# Altium schematic symbol library SMD Passive Components.SchLib: 21 symbols
Pins are listed as number, name and electrical type; pins without a type are passive.

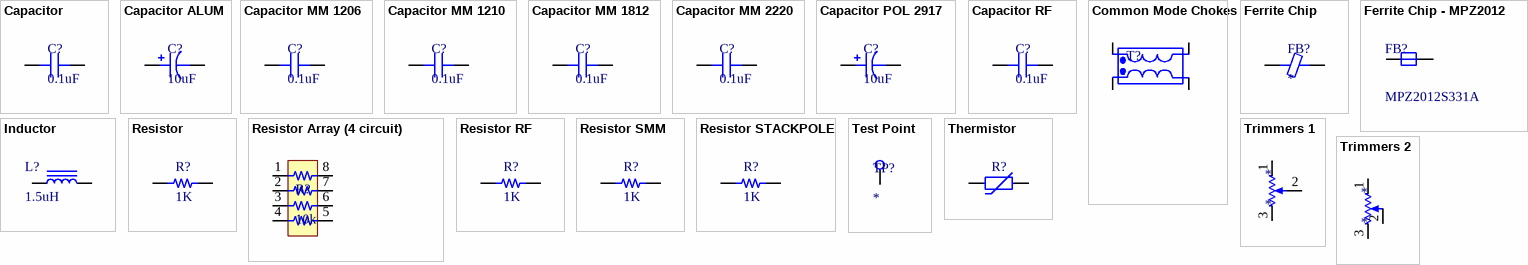
[diagram p0: symbols Capacitor to Trimmers 2]

## Capacitor
designator C?, comment 0.1uF
SMT Capacitor; Value: 0.1uF
footprint CAP 0201/0603 (Chip Capacitor, 2-Leads, Body 0.60x0.30mm, IPC Medium Density)
footprint CAP 0402/1005 (Chip Capacitor, 2-Leads, Body 1.02x0.51mm, IPC Medium Density)
footprint CAP 0603/1608 (Chip Capacitor, 2-Leads, Body 1.60x0.80mm, IPC Medium Density)
footprint CAP 0805/2012 (Chip Capacitor, 2-Leads, Body 2.00x1.20mm, IPC Medium Density)
pins: 1, 2

## Capacitor ALUM
designator C?, comment 10uF
SMT Polarised Capacitor; Value: 10uF
footprint CAP ALUM 6.6MM (Aluminum Electrolytic Capacitor, Body 6.60x6.60x7.70mm, IPC Low Density)
footprint CAP ALUM 8.3MM (Aluminum Electrolytic Capacitor, Body 8.30x8.30x10.50mm, IPC Low Density)
footprint CAP ALUM 10.3MM (Aluminum Electrolytic Capacitor, Body 10.30x10.30x10.50mm, IPC Low Density)
pins: 1, 2

## Capacitor MM 1206
designator C?, comment 0.1uF
SMT Capacitor; Value: 0.1uF
footprint CAP 1206/3216 - 0.8MM (Chip Capacitor, 2-Leads, Body 3.25x1.60mm, IPC Medium Density)
footprint CAP 1206/3216 - 1.0MM (Chip Capacitor, 2-Leads, Body 3.25x1.60mm, IPC Medium Density)
footprint CAP 1206/3216 - 1.2MM (Chip Capacitor, 2-Leads, Body 3.25x1.60mm, IPC Medium Density)
footprint CAP 1206/3216 - 1.8MM (Chip Capacitor, 2-Leads, Body 3.25x1.60mm, IPC Medium Density)
pins: 1, 2

## Capacitor MM 1210
designator C?, comment 0.1uF
SMT Capacitor; Value: 0.1uF
footprint CAP 1210/3225 - 1MM (Chip Capacitor, 2-Leads, Body 3.20x2.50mm, IPC Medium Density)
footprint CAP 1210/3225 - 1.2MM (Chip Capacitor, 2-Leads, Body 3.20x2.50mm, IPC Medium Density)
footprint CAP 1210/3225 - 1.4MM (Chip Capacitor, 2-Leads, Body 3.20x2.50mm, IPC Medium Density)
footprint CAP 1210/3225 - 1.6MM (Chip Capacitor, 2-Leads, Body 3.20x2.50mm, IPC Medium Density)
footprint CAP 1210/3225 - 1.8MM (Chip Capacitor, 2-Leads, Body 3.20x2.50mm, IPC Medium Density)
footprint CAP 1210/3225 - 2.0MM (Chip Capacitor, 2-Leads, Body 3.20x2.50mm, IPC Medium Density)
footprint CAP 1210/3225 - 2.2MM (Chip Capacitor, 2-Leads, Body 3.20x2.50mm, IPC Medium Density)
footprint CAP 1210/3225 - 2.5MM (Chip Capacitor, 2-Leads, Body 3.20x2.50mm, IPC Medium Density)
footprint CAP 1210/3225 - 2.8MM (Chip Capacitor, 2-Leads, Body 3.20x2.50mm, IPC Medium Density)
pins: 1, 2

## Capacitor MM 1812
designator C?, comment 0.1uF
SMT Capacitor; Value: 0.1uF
footprint CAP 1812/4532 1.1MM (Chip Capacitor, 2-Leads, Body 4.50x3.20mm, IPC Medium Density)
footprint CAP 1812/4532 1.35MM (Chip Capacitor, 2-Leads, Body 4.50x3.20mm, IPC Medium Density)
footprint CAP 1812/4532 1.5MM (Chip Capacitor, 2-Leads, Body 4.50x3.20mm, IPC Medium Density)
footprint CAP 1812/4532 1.75MM (Chip Capacitor, 2-Leads, Body 4.50x3.20mm, IPC Medium Density)
footprint CAP 1812/4532 2.00MM (Chip Capacitor, 2-Leads, Body 4.50x3.20mm, IPC Medium Density)
footprint CAP 1812/4532 2.20MM (Chip Capacitor, 2-Leads, Body 4.50x3.20mm, IPC Medium Density)
footprint CAP 1812/4532 2.55MM (Chip Capacitor, 2-Leads, Body 4.50x3.20mm, IPC Medium Density)
footprint CAP 1812/4532 2.8MM (Chip Capacitor, 2-Leads, Body 4.50x3.20mm, IPC Medium Density)
footprint CAP 1812/4532 3.5MM (Chip Capacitor, 2-Leads, Body 4.50x3.20mm, IPC Medium Density)
pins: 1, 2

## Capacitor MM 2220
designator C?, comment 0.1uF
SMT Capacitor; Value: 0.1uF
footprint CAP 2220/5650 1.5MM (Chip Capacitor, 2-Leads, Body 5.70x5.00mm, IPC Medium Density)
footprint CAP 2220/5650 2.0MM (Chip Capacitor, 2-Leads, Body 5.70x5.00mm, IPC Medium Density)
footprint CAP 2220/5650 2.5MM (Chip Capacitor, 2-Leads, Body 5.70x5.00mm, IPC Medium Density)
footprint CAP 2220/5650 3.0MM (Chip Capacitor, 2-Leads, Body 5.70x5.00mm, IPC Medium Density)
footprint CAP 2220/5650 3.3MM (Chip Capacitor, 2-Leads, Body 5.70x5.00mm, IPC Medium Density)
footprint CAP 2220/5650 4.2MM (Chip Capacitor, 2-Leads, Body 5.70x5.00mm, IPC Medium Density)
pins: 1, 2

## Capacitor POL 2917
designator C?, comment 10uF
SMT Polarised Capacitor; Value: 10uF
footprint CAP POL 2917/7343 (Molded Capacitor, 2-Leads, Body 7.30x4.30mm, IPC Medium Density)
pins: 1, 2

## Capacitor RF
designator C?, comment 0.1uF
SMT Capacitor; Value: 0.1uF
footprint CAP 0201/0603 RF (Chip Capacitor, 2-Leads, Body 0.60x0.30mm, IPC High Density)
footprint CAP 0402/1005 RF (Chip Capacitor, 2-Leads, Body 1.02x0.51mm, IPC High Density)
footprint CAP 0603/1608 RF (Chip Capacitor, 2-Leads, Body 1.60x0.80mm, IPC High Density)
footprint CAP 0805/2012 RF (Chip Capacitor, 2-Leads, Body 2.00x1.20mm, IPC High Density)
pins: 1, 2

## Common Mode Chokes
designator T?
footprint TDK B82793S513N201 SOP250P910X480-4M (SOP, 4-Leads, Body 6,0x7,1mm (max), Pitch 2,50mm, IPC Low Density)
pins: 1 Ch1+, 2 Ch2+, 3 Ch2-, 4 Ch1-

## Ferrite Chip
designator FB?
SMT Ferrite Chip
footprint FER 0201/0603 (Chip Inductor, 2-Leads, Body 0.60x0.30mm, IPC Medium Density)
footprint FER 0402/1005 (Chip Ferrite, 2-Leads, Body 1.02x0.51mm, IPC Medium Density)
footprint FER 0603/1608 (Chip Ferrite, 2-Leads, Body 1.60x0.80mm, IPC Medium Density)
footprint FER 0805/2012 (Chip Ferrite, 2-Leads, Body 2.00x1.20mm, IPC Medium Density)
pins: 1, 2

## Ferrite Chip - MPZ2012
designator FB?, comment MPZ2012S331A
Chip Beads for Power Line, TDK
footprint FER 0805/2012 (Chip Ferrite, 2-Leads, Body 2.00x1.20mm, IPC Medium Density)
pins: 1 A, 2 K

## Inductor
designator L?, comment 1.5uH
SMT Inductor; Value: 1.5uH
footprint IND 0402/1005 RF WW (Chip Inductor, 2-Leads, Body 1.00x0.50mm, IPC High Density)
pins: 1, 2

## Resistor
designator R?, comment 1K
SMT Resistor; Value: 1K
footprint RES 0201/0603 (Chip Resistor, 2-Leads, Body 0.60x0.30mm, IPC Medium Density)
footprint RES 0402/1005 (Chip Resistor, 2-Leads, Body 1.0x0.5mm, IPC Medium Density)
footprint RES 0603/1608 (Chip Resistor, 2-Leads, Body 1.60x0.80mm, IPC Medium Density)
footprint RES 0805/2012 (Chip Resistor, 2-Leads, Body 2.00x1.25mm, IPC Medium Density)
footprint RES 1206/3216 (Chip Resistor, 2-Leads, Body 3.13x1.55mm, IPC Medium Density)
pins: 1, 2

## Resistor Array (4 circuit)
designator R?, comment 10k
SMT Resistor Array; Value: 10k
footprint BOURNS CAT10-103J4LF
pins: 1, 2, 3, 4, 5, 6, 7, 8 4

## Resistor RF
designator R?, comment 1K
SMT Resistor; Value: 1K
footprint RES 0402/1005 RF (Chip Resistor, 2-Leads, Body 1.0x0.5mm, IPC High Density)
footprint RES 0603/1608 RF (Chip Resistor, 2-Leads, Body 1.60x0.80mm, IPC High Density)
footprint RES 0805/2012 RF (Chip Resistor, 2-Leads, Body 2.00x1.25mm, IPC High Density)
footprint RES 1206/3216 RF (Chip Resistor, 2-Leads, Body 3.13x1.55mm, IPC High Density)
pins: 1, 2

## Resistor SMM
designator R?, comment 1K
SMT Resistor; Value: 1K
footprint RES SMM 0102 (0805, Chip Resistor/Capacitor/ýnductor, 2-Leads, Body 1,9x1,3mm, IPC Medium Density)
footprint RES SMM 0204 (1206, Chip Resistor/Capacitor/Inductor, 2-Leads, Body 3,0x1,6mm, IPC Medium Density)
pins: 1, 2

## Resistor STACKPOLE
designator R?, comment 1K
SMT Resistor; Value: 1K
footprint STACKPOLE CSR0402 (Chip Resistor, 2-Leads, Body 1.0x0.5mm, IPC Medium Density)
footprint STACKPOLE CSR0603 (Chip Resistor, 2-Leads, Body 1.60x0.80mm, IPC Medium Density)
footprint STACKPOLE CSR0805 (Chip Resistor, 2-Leads, Body 2.00x1.25mm, IPC Medium Density)
footprint STACKPOLE CSR1206 (Chip Resistor, 2-Leads, Body 3.13x1.55mm, IPC Medium Density)
footprint STACKPOLE CSR1210 (Chip Resistor, 2-Leads, Body 3.1x2.6mm, IPC Medium Density)
footprint STACKPOLE CSR2010 (Chip Resistor, 2-Leads, Body 5.00x2.54mm, IPC Medium Density)
footprint STACKPOLE CSR2512 (Chip Resistor, 2-Leads, Body 6.40x3.20mm, IPC Medium Density)
footprint STACKPOLE CSRN2010 (Chip Resistor, 2-Leads, Body 5.00x2.54mm, IPC Medium Density)
footprint STACKPOLE CSRN2512 (Chip Resistor, 2-Leads, Body 6.40x3.20mm, IPC Medium Density)
pins: 1, 2

## Test Point
designator TP?
footprint TE TP 0805
pins: 1 TP

## Thermistor
designator R?
SMT Resistor; Value: ="Resistance in Ohms @ 25C"
footprint NTC 0402/1005 (Chip Thermistor, 2-Leads, Body 1.00x0.50mm, IPC Medium Density)
footprint NTC 0603/1608 (NTC Thermistor, 2-Leads, Body 1.60x0.80mm, IPC Medium Density)
footprint NTC 0805/2012 (Chip Thermistor, 2-Leads, Body 2.00x1.25mm, IPC Medium Density)
pins: 1, 2

## Trimmers 1
designator *
Trimmers 1
footprint POT BOURNS TRIMPOT 3302 (Bourns Trimpot 3302 - Open Frame 2.75mm x 2.20mm x 1.05mm)
footprint POT Murata PVA2 (Murata PVA2 2.75mm x 2.20mm x 0.80mm)
footprint POT Panasonic EVM (Panasonic EVM3Y 3.45mm x 3.10mm x 1.55mm)
footprint POT PANASONIC EVM2W (Panasonic EVM2W 2.75mm x 2.20mm x 1.05mm)
pins: 1, 2, 3

## Trimmers 2
designator *
Trimmers 2
footprint POT BOURNS TRIMPOT 3302 (Bourns Trimpot 3302 - Open Frame 2.75mm x 2.20mm x 1.05mm)
footprint POT Murata PVA2 (Murata PVA2 2.75mm x 2.20mm x 0.80mm)
footprint POT Panasonic EVM (Panasonic EVM3Y 3.45mm x 3.10mm x 1.55mm)
footprint POT PANASONIC EVM2W (Panasonic EVM2W 2.75mm x 2.20mm x 1.05mm)
pins: 1, 2, 3